# EAGLE library part LT3045-MSOP12 (library LT3045-MSOP12)
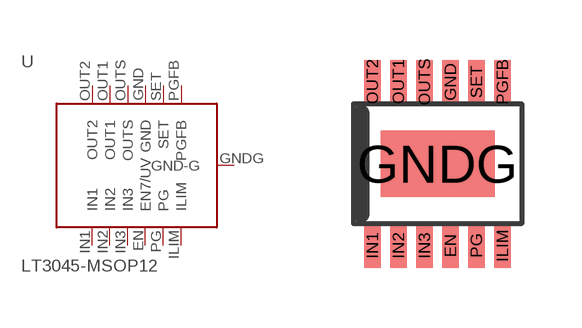
[diagram p0: symbol with the pads of LT3045-MSOP12; footprint LT3045-MSOP12]

Designator prefix -

## LT3045-MSOP12  [LT3045-MSOP12]
EN  EN7/UV
GND  GND
GNDG  GND-G
ILIM  ILIM
IN1  IN1
IN2  IN2
IN3  IN3
OUT1  OUT1
OUT2  OUT2
OUTS  OUTS
PG  PG
PGFB  PGFB
SET  SET

## Footprint LT3045-MSOP12 (pad centres in mm)
smd 0.42 x 1.1: EN 0.325,-2.05; GND 0.325,2.05; ILIM 1.625,-2.05; IN1 -1.625,-2.05; IN2 -0.975,-2.05; IN3 -0.325,-2.05; OUT1 -0.975,2.05; OUT2 -1.625,2.05; OUTS -0.325,2.05; PG 0.975,-2.05; PGFB 1.625,2.05; SET 0.975,2.05
smd 2.85 x 1.65: GNDG 0,0